# EAGLE library part ULN2003ADR (library ruark2)
Bipolar (BJT) Transistor Array 7 NPN Darlington 50V 500mA Surface Mount 16-SOIC
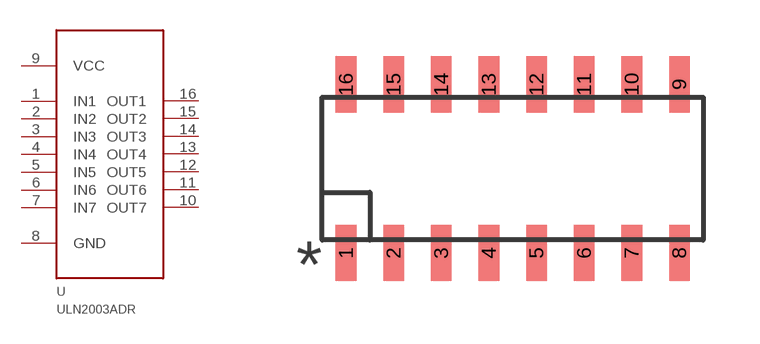
[diagram p116: symbol with the pads of SOIC16; footprint SOIC16]

Designator prefix U

## ULN2003ADR (PARTNO: 296-1368-1-ND)  [SOIC16]
1  IN1
2  IN2
3  IN3
4  IN4
5  IN5
6  IN6
7  IN7
8  GND
9  VCC
10  OUT7
11  OUT6
12  OUT5
13  OUT4
14  OUT3
15  OUT2
16  OUT1

## Footprint SOIC16 (pad centres in mm)
smd 0.549 x 1.499: 1 -4.445,-2.25; 2 -3.175,-2.25; 3 -1.905,-2.25; 4 -0.635,-2.25; 5 0.635,-2.25; 6 1.905,-2.25; 7 3.175,-2.25; 8 4.445,-2.25; 9 4.445,2.25; 10 3.175,2.25; 11 1.905,2.25; 12 0.635,2.25; 13 -0.635,2.25; 14 -1.905,2.25; 15 -3.175,2.25; 16 -4.445,2.25